# Altium footprint library C_0603_1608.PcbLib: 1 footprints
Each footprint in its own frame and in the unit in brackets; x right, y up, seen from the top. Pads: shape width x height; smd on the part's side, far side on the other; paste and mask are expansions set on the pad; w line width, h text height; cw(c..) or ccw(c..) is an arc to the next point about the centre after c.
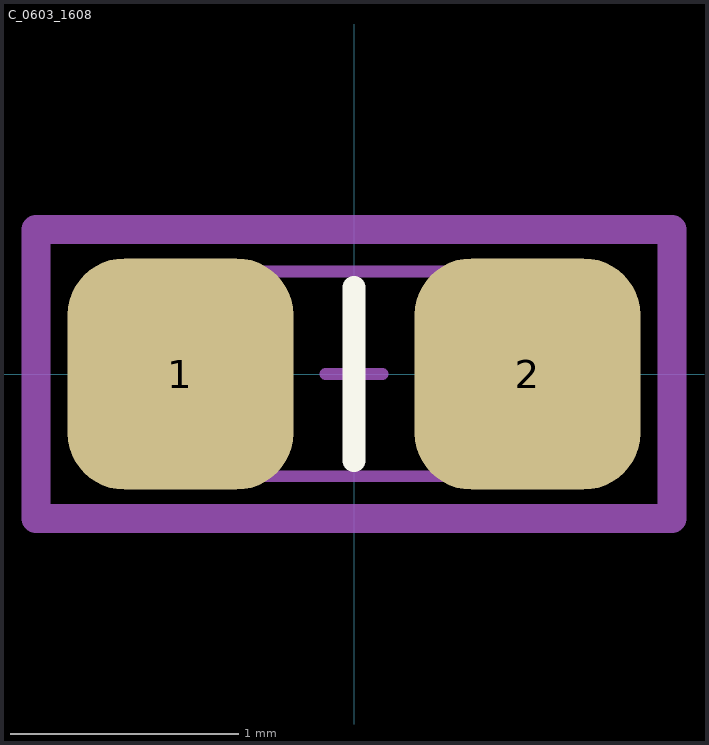
[diagram p0: the footprint, top view; thin cyan lines are the x and y axes]

## C_0603_1608 [mil]
pads (2):
  rrect50% 39x40 smd mask+1.97: 1(-30,0) 2(30,0)
Top Overlay:
  lines w3.94: 0,-15 0,15
Top Assembly:
  lines w2: -33.46,-17.71 33.47,-17.71 33.47,17.72 -33.46,17.72 -33.46,-17.71
  text "'.Designator'" at -25,5 h3.94
Top Courtyard:
  lines w2: -4.92,0 4.92,0 ; 0,-4.92 0,4.92
  lines w5: -55,-25 55,-25 55,25 -55,25 -55,-25
3D body "CAP_0603.STEP": height 34.92, standoff -0.51, extent -33.46,-17.71 33.47,17.72